# EAGLE library part VICOR_MICRO (library Vicor)
VICOR_MICRO
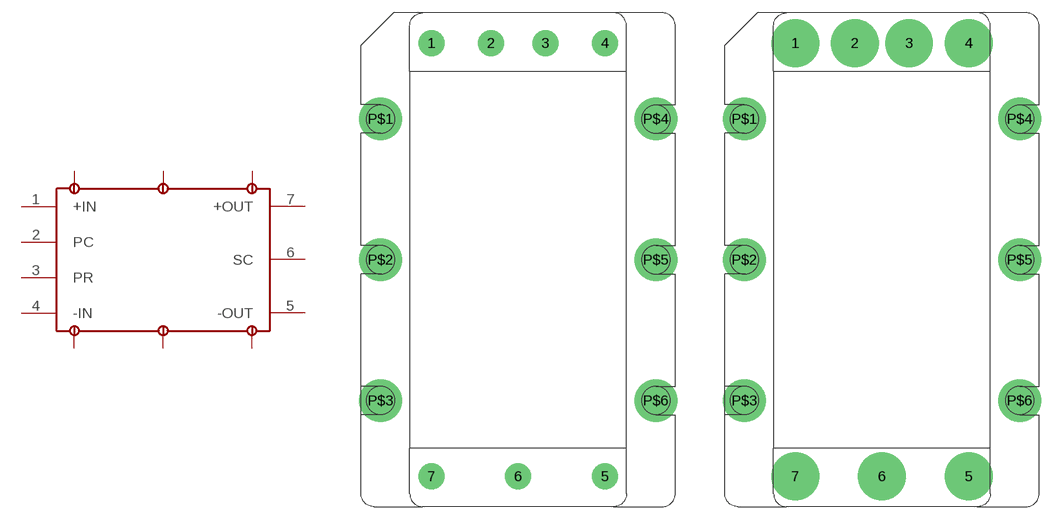
[diagram p1: symbol with the pads of VICOR_MICRO; footprints VICOR_MICRO, VICOR_MICRO_PCB]

Designator prefix -

## VICOR_MICROA  [VICOR_MICRO]
1  +IN  in
2  PC  pas
3  PR  pas
4  -IN  in
5  -OUT  out
6  SC  pas
7  +OUT  out
P$1  P$1  pas
P$2  P$2  pas
P$3  P$3  pas
P$4  P$4  pas
P$5  P$5  pas
P$6  P$6  pas

## VICOR_MICROPCB  [VICOR_MICRO_PCB]
Pads as for VICOR_MICRO

## Footprint VICOR_MICRO (pad centres in mm)
VICOR MICRO
drill 2.032: 1 -10.16,25.4; 2 -3.175,25.4; 3 3.175,25.4; 4 10.16,25.4; 5 10.16,-25.4; 6 0,-25.4; 7 -10.16,-25.4
drill 4: P$1 -16.129,16.51; P$2 -16.129,0; P$3 -16.129,-16.51; P$4 16.129,16.51; P$5 16.129,0; P$6 16.129,-16.51

## Footprint VICOR_MICRO_PCB (pad centres in mm)
VICOR MICRO PARA PCB Tiene conectores que se adaptan al pcb
drill 4.6: 1 -10.16,25.4; 2 -3.175,25.4; 3 3.175,25.4; 4 10.16,25.4; 5 10.16,-25.4; 6 0,-25.4; 7 -10.16,-25.4
drill 4: P$1 -16.129,16.51; P$2 -16.129,0; P$3 -16.129,-16.51; P$4 16.129,16.51; P$5 16.129,0; P$6 16.129,-16.51